# EAGLE library part 62102021921 (library Board_to_Board_Connectors_rev15d)
WR-PHD 2.00mm Dual SMT Pin Header, 20 Pins=>Code :WR-PHD_SMD_2,00mm_zweireihig62102021921 <http://katalog.we-online.de/media/images/eican/WR-PHD_SMD_2,00mm_zweireihig62103221921.jpg> Details see: http://katalog.we-online.de/en/em/621_0xx_219_21 Created 2014-06-03, Karrer Zheng 2014 (C) Würth Elektronik
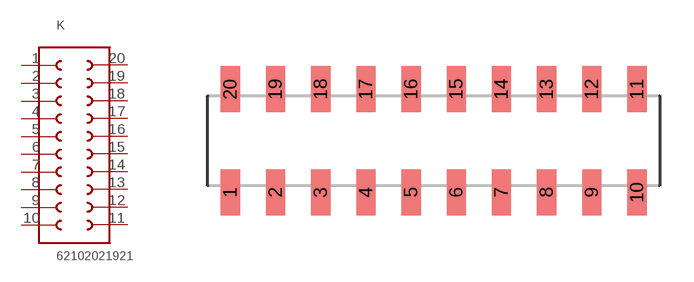
[diagram p247: symbol with the pads of 62102021921; footprint 62102021921]

Designator prefix K

## 62102021921  [62102021921]
1  1  pas
2  2  pas
3  3  pas
4  4  pas
5  5  pas
6  6  pas
7  7  pas
8  8  pas
9  9  pas
10  10  pas
11  11  pas
12  12  pas
13  13  pas
14  14  pas
15  15  pas
16  16  pas
17  17  pas
18  18  pas
19  19  pas
20  20  pas

## Footprint 62102021921 (pad centres in mm)
WR-PHD 2.00mm Dual SMT Pin Header, 20 Pins
smd 0.85 x 2.03: 1 -9,-2.285; 2 -7,-2.285; 3 -5,-2.285; 4 -3,-2.285; 5 -1,-2.285; 6 1,-2.285; 7 3,-2.285; 8 5,-2.285; 9 7,-2.285; 10 9,-2.285; 11 9,2.285; 12 7,2.285; 13 5,2.285; 14 3,2.285; 15 1,2.285; 16 -1,2.285; 17 -3,2.285; 18 -5,2.285; 19 -7,2.285; 20 -9,2.285